# Altium schematic symbol library Misc.SchLib: 73 symbols
Pins are listed as number, name and electrical type; pins without a type are passive.

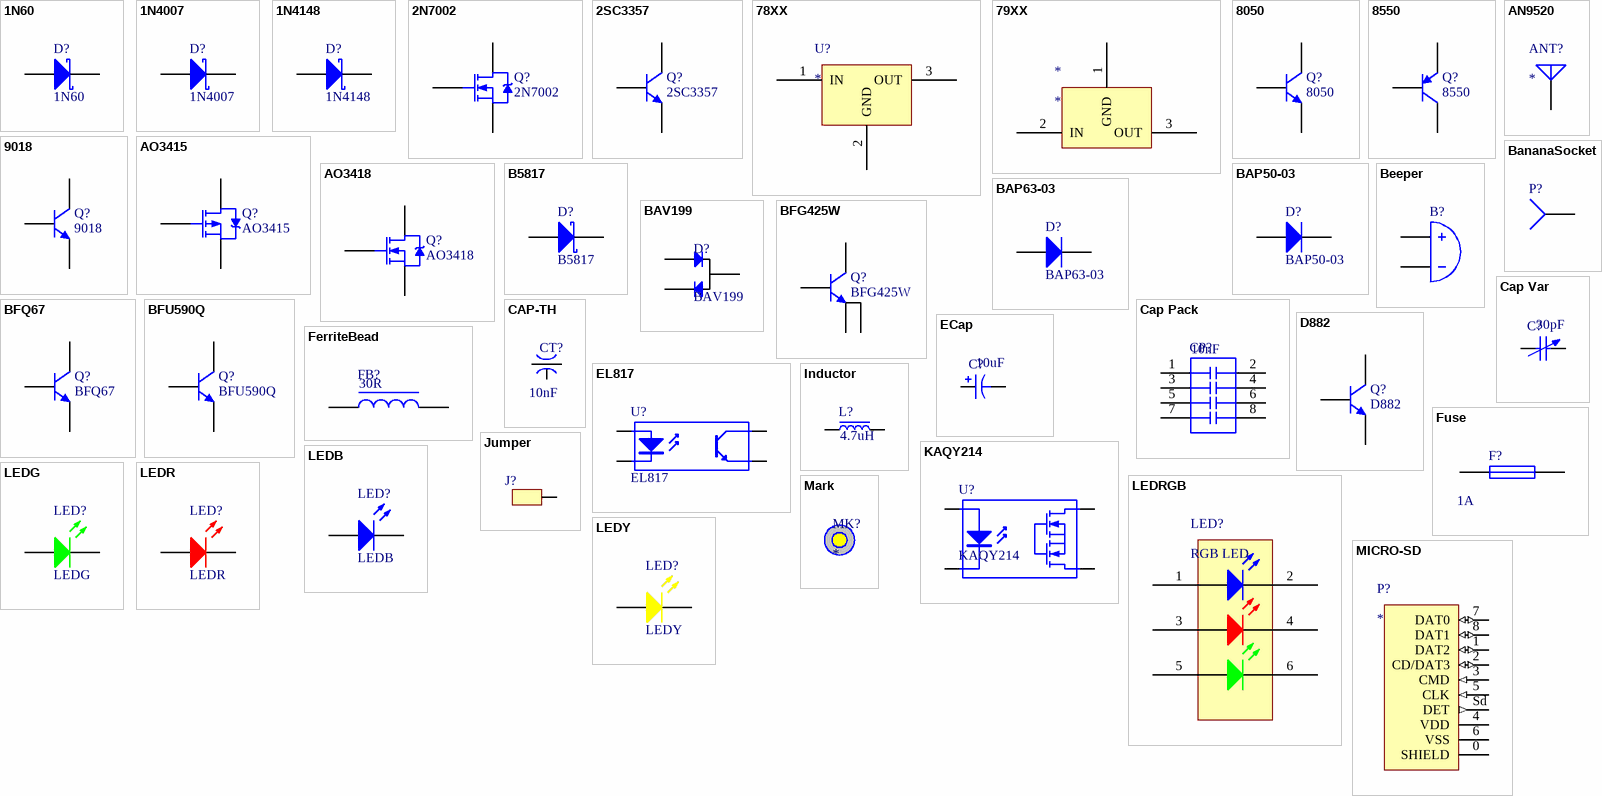
[diagram p0: symbols 1N60 to MICRO-SD]

## 1N60
designator D?
Germanium Glass Diode
footprint SOD-80
pins: 1 A, 2 K

## 1N4007
designator D?
footprint SMA (DO-214AC(2010))
pins: 1 A, 2 K

## 1N4148
designator D?
Small signal didoe
footprint SOD323 (0805)
footprint SOD-80 (LL34 SOD-80)
pins: 1 A, 2 K

## 2N7002
designator Q?
Small Signal MOSFET 60 V, 115 mA, N−Channel SOT−23
footprint SOT-23
pins: 1 G, 2 S, 3 D

## 2SC3357
designator Q?
NPN EPITAXIAL SILICON RF TRANSISTOR FOR HIGH-FREQUENCY LOW-NOISE AMPLIFICATION 3-PIN POWER MINIMOLD
footprint SOT-89
pins: 1 B, 2 C, 3 E

## 78XX
designator U?
footprint DPAKUNI
pins: 1 IN (power), 2 GND (power), 3 OUT (power)

## 79XX
designator *
footprint DPAKUNI
pins: 1 GND (power), 2 IN (power), 3 OUT (power)

## 8050
designator Q?
NPN Bipolar Transistor
footprint SOT-23
pins: 1 B, 2 E, 3 C

## 8550
designator Q?
PNP Bipolar Transistor
footprint SOT-23
pins: 1 B, 2 E, 3 C

## 9018
designator Q?
footprint TO-92A (TO, Flat Index; 3 In-Line, Axial Leads; Body Dia. 4.5mm; Leads 0.51 x 0.48 mm (max))
pins: 1 E, 2 B, 3 C

## AN9520
designator ANT?
Multilayer Chip Antenna for 2.4GHz Wireless Communication
footprint AN9520 (Multilayer Chip Antenna for 2.4GHz Wireless Communication)
pins: 1 A

## AO3415
designator Q?
20V P-Channel MOSFET
footprint SOT-23
pins: 1 G, 2 S, 3 D

## AO3418
designator Q?
30V N-Channel MOSFET
footprint SOT-23
pins: 1 G, 2 S, 3 D

## B5817
designator D?
1.0A SURFACE MOUNT SCHOTTKY BARRIER RECTIFIER
footprint SOD123 (1206)
pins: 1 A, 2 K

## BananaSocket
designator P?
BananaSocket
footprint BANANA_SOCKET
footprint BANANA_SOCKET_SCREW
footprint BANANA_SOCKET_HOLE
footprint BANANA_SOCKET_SMALL
pins: 1

## BAP50-03
designator D?
Silicon PIN diode
footprint SOD323 (0805)
pins: 1 A, 2 K

## BAP63-03
designator D?
Silicon PIN diode
footprint SOD323 (0805)
pins: 1 A, 2 K

## BAV199
designator D?
Low-leakage double diode
footprint SOT-23
pins: 1 A, 2 K, 3 COM

## Beeper
designator B?  (value not drawn)
footprint BEEPER
pins: 1 A, 2 B

## BFG425W
designator Q?
NPN 25 GHz wideband transistor
footprint SOT-343 (SOT143, 4-Leads, Body 2.92x2.10mm, Pitch 1.30mm, IPC Medium Density)
pins: 1 E, 2 B, 3 E, 4 C

## BFQ67
designator Q?
NPN 8 GHz wideband transistor
footprint SOT-23
pins: 1 B, 2 E, 3 C

## BFU590Q
designator Q?
NPN wideband silicon RF transistor
footprint SOT-89
pins: 1 B, 2 C, 3 E

## Cap Pack
designator CP?  value 10nF  (hidden comment: Cap Pack)
Packed capacitor
footprint 8P4R_0603
pins: 1, 2, 3, 4, 5, 6, 7, 8

## Cap Var
designator C?  value 30pF
Variable or Adjustable Capacitor; Published: 24-Mar-1999; LatestRevisionDate: 29-May-2009; LatestRevisionNote: IPC-7351 Footprint Added.; PackageReference: C1210; Publisher: Altium Limited; PackageDescription: Chip Capacitor 1210 Case Size; Code_JEITA: 1210; Code_IPC: CAPC3225
footprint TZC3
pins: 1, 2

## CAP-TH
designator CT?  value 10nF  (hidden comment: *)
3-terminal capacitor
footprint CAPC0603TH (Chip Capacitor, Body 1.6x0.8mm, Height 0.55mm, IPC Low Density)
footprint CAPC0805TH (Chip Capacitor, 2-Leads, Body 2.00x1.25mm, IPC Medium Density)
pins: 1 (power), 2 (power), 3 (power)

## D882
designator Q?
NPN Silicon Epitaxial Planar Transistor
footprint SOT-89 (SOT89, 3-Leads, Body 4.50x2.50mm, Pitch 1.50mm, Lead Span 3.5mm, IPC Medium Density)
pins: 1 B, 2 C, 3 E

## ECap
designator C?  value 10uF
footprint EC4x5.4
footprint EC6.3x5.4
pins: 1, 2
1 alternate drawing of the same symbol

## EL817
designator U?
Photocoupler
footprint EL817S
pins: 1 A "Anode", 2 K "Cathode", 3 E "Emitter", 4 C "Collector"

## FerriteBead
designator FB?  value 30R  (hidden comment: FerriteBead)
footprint 0402L
footprint 0603L
footprint 0805L (1/8W)
footprint 1206L (1/4W)
pins: 1, 2

## Fuse
designator F?  Current: 1A  (hidden comment: Fuse)
footprint FUSE154
footprint 1206F
pins: 1, 2

## Inductor
designator L?  value 4.7uH  (hidden comment: Inductor)
footprint 0402L
footprint 0603L
footprint 0805L (1/8W)
footprint 1206L (1/4W)
footprint 1210L
footprint 1812L
footprint 2220L
footprint 2525L
pins: 1, 2

## Jumper
designator J?  (value not drawn)
footprint JUMPER
pins: 1

## KAQY214
designator U?
4PIN 400V N.O TYPE SOLID STATE RELAY-MOSFET Output
footprint KAQY214
pins: 1 A "Anode", 2 K "Cathode", 3 "Emitter", 4 "Collector"

## LEDB
designator LED?
BLUE LED
footprint LED1206B
footprint LED0603
pins: 1 A, 2 K

## LEDG
designator LED?
GREEN LED
footprint LED1206G
footprint LED0805G
footprint LED0603
pins: 1 A, 2 K

## LEDR
designator LED?
RED LED
footprint LED1206R
footprint LED0805R
footprint LED0603
pins: 1 A, 2 K

## LEDRGB
designator LED?, comment RGB LED
footprint LED5050
pins: 1 BLUEA (power), 2 BLUEK, 3 REDA, 4 REDK, 5 GREENA, 6 GREENK

## LEDY
designator LED?
YELLOW LED
footprint LED1206Y
pins: 1 A, 2 K

## Mark
designator MK?
footprint MARK

## MICRO-SD
designator P?
Micro SD Card
footprint MICRO_SD
pins: 0 SHIELD, 1 DAT2 (io), 2 CD/DAT3 (io), 3 CMD (in), 4 VDD (power), 5 CLK (in), 6 VSS (power), 7 DAT0 (io), 8 DAT1 (io), Sd DET (out)

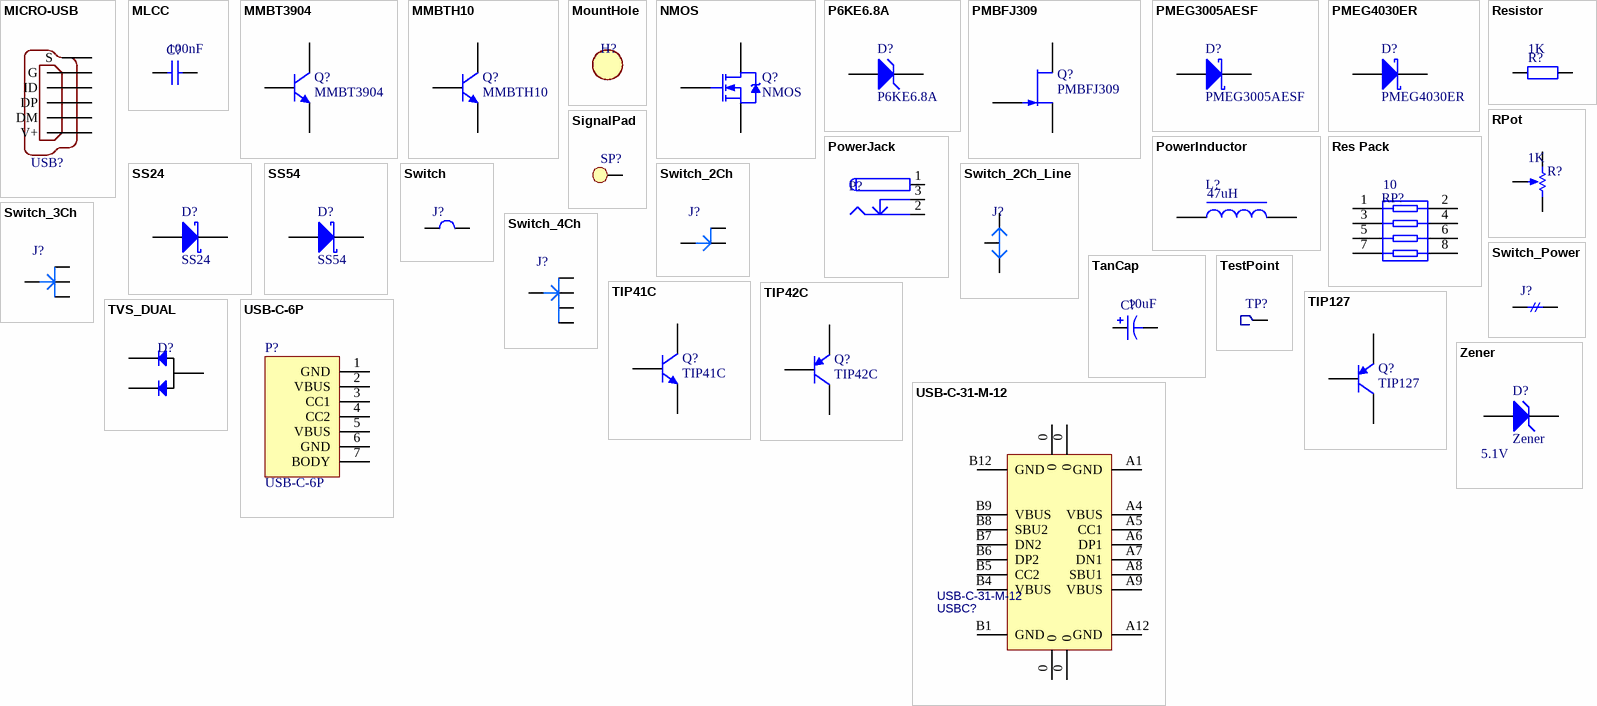
[diagram p1: symbols MICRO-USB to Zener]

## MICRO-USB
designator USB?  (value not drawn)
MICRO USB Connector
footprint USB-MICRO
pins: 1 G, 2 ID, 3 DP, 4 DM, 5 V+, 6 S

## MLCC
designator C?  value 100nF
MLCC
footprint 0402C
footprint 0603C
footprint 0805C
footprint 1206C
footprint 1210C
footprint 1812C
footprint 0201C (Chip Capacitor, 2-Leads, Body 0.60x0.30mm, IPC High Density)
pins: 1, 2

## MMBT3904
designator Q?
NPN switching transistor
footprint SOT-23
pins: 1 B, 2 E, 3 C

## MMBTH10
designator Q?
VHF/UHF Transistor
footprint SOT-23
pins: 1 B, 2 E, 3 C

## MountHole
designator H?  (value not drawn)
3mm mount hole
footprint MOUNTHOLE

## NMOS
designator Q?
N-Channel Power MOSFET
footprint DPAKUNI
pins: 1 G, 2 D, 3 S

## P6KE6.8A
designator D?
600 Watt Peak Power Surmetict-40 Zener TransientVoltage Suppressors
footprint SMB (DO-214AA)
pins: 1 A, 2 K

## PMBFJ309
designator Q?
N-channel silicon field-effect transistors
footprint SOT-23
pins: 1 S, 2 D, 3 G

## PMEG3005AESF
designator D?
30 V, 0.5 A low VF MEGA Schottky barrier rectifier
footprint 0201D
pins: 1 A, 2 K

## PMEG4030ER
designator D?
3 A low VF MEGA Schottky barrier rectifier
footprint SOD123 (1206)
pins: 1 A, 2 K

## PowerInductor
designator L?  value 47uH  (hidden comment: PowerInductor)
Power Inductor
footprint CD32NP (CD32)
footprint CD43NP (功率电感)
footprint CD75NP
footprint INDUCTOR
footprint INDUCTOR-NON-STANDARD
footprint IND0630 (POWER INDUCTOR)
footprint IND0420 (POWER INDUCTOR)
footprint CD54NP
footprint SWPA252012S (Wire Wound SMD Power Inductors)
footprint IND12X12
footprint IND68UH5A (Wire 0.75mm, Core 13mm 50125, Total diameter 15.5mm)
pins: 1, 2

## PowerJack
designator P?
Low Voltage Power Supply Connector; Published: 17-Dec-2003; DatasheetDocument: 09-May-2002; Publisher: Altium Limited; ComponentLink1Description: Manufacturer Link; ComponentLink1URL: http://domino.kycon.com/internet/Products.html
footprint DC_JACK_5.5*2.5
pins: 1 (power), 2 (power), 3 (power)

## Res Pack
designator RP?  value 10  (hidden comment: Res Pack)
Isolated Resistor Network
footprint 8P4R_0603
footprint 8P4R_0402
footprint 8P4R_0201
pins: 1, 2, 3, 4, 5, 6, 7, 8

## Resistor
designator R?  value 1K
Resistor
footprint 0402R
footprint 0603R
footprint 0805R (small type  ver20150428)
footprint 1206R
footprint 2512R
pins: 1, 2

## RPot
designator R?  value 1K  (hidden comment: RPot)
Potentiometer
footprint VR
pins: 1 TOP, 2 TAP, 3 BOT
1 alternate drawing of the same symbol

## SignalPad
designator SP?  (value not drawn)
footprint SIGNALPAD
pins: 1

## SS24
designator D?
Schottky Rectifier
footprint SMA (DO-214AC(2010))
pins: 1 A, 2 K

## SS54
designator D?
Schottky Rectifier
footprint SMC (DO-214AB(2114))
pins: 1 A, 2 K

## Switch
designator J?  (value not drawn)
footprint SWITCH
pins: 1, 2

## Switch_2Ch
designator J?  (value not drawn)
footprint SWITCH_2CH
pins: 1, 2, 3

## Switch_2Ch_Line
designator J?  (value not drawn)
footprint SWITCH_2CH_LINE
pins: 1, 2, 3

## Switch_3Ch
designator J?  (value not drawn)
footprint SWITCH_3CH
pins: 1, 2, 3, 4

## Switch_4Ch
designator J?  (value not drawn)
footprint SWITCH_4CH
pins: 1, 2, 3, 4, 5

## Switch_Power
designator J?  (value not drawn)
footprint SWITCH_POWER
pins: 1, 2

## TanCap
designator C?  value 10uF
Tantalum Polarized Capacitor
footprint 3216-A-TA
footprint 3528-B-TA
footprint 6032-C-TA
footprint 7243-D-TA
footprint 2012-0805-TA
pins: 1, 2
1 alternate drawing of the same symbol

## TestPoint
designator TP?  (value not drawn)
footprint TP
footprint TP_OSCILLOSCOPE
pins: 1

## TIP41C
designator Q?
NPN Epitaxial Silicon Transistor
footprint TO-220
pins: 1 B, 2 C, 3 E

## TIP42C
designator Q?
PNP Epitaxial Silicon Transistor
footprint TO-220
pins: 1 B, 2 C, 3 E

## TIP127
designator Q?
Plastic Medium-Power Complementary Silicon Transistors
footprint DPAK2
pins: 1 B, 2 C, 3 E

## TVS_DUAL
designator D?
footprint SOT-23
pins: 1 A, 2 K, 3 COM

## USB-C-6P
designator P?
footprint USB_TYPE-C_6P_SMT
pins: 1 GND, 2 VBUS, 3 CC1, 4 CC2, 5 VBUS, 6 GND, 7 BODY

## USB-C-31-M-12
designator USBC?
BOM_Manufacturer: Rectangular Connectors - Contacts; BOM_Manufacturer Part: TYPE-C-31-M-12; Contributor: LCSC; BOM_Supplier: LCSC; BOM_Supplier Part: C165948; spicePre: U
footprint USB-C_SMD-TYPE-C-31-M-12
pins: 0, 0, 0, 0, A1 GND, A4 VBUS, A5 CC1, A6 DP1, A7 DN1, A8 SBU1, A9 VBUS, A12 GND, B1 GND, B4 VBUS, B5 CC2, B6 DP2, B7 DN2, B8 SBU2, B9 VBUS, B12 GND

## Zener
designator D?  value 5.1V
Zener Diode
footprint SOD-80
footprint SMA (DO-214AC(2010))
footprint SOD123 (1206)
pins: 1 A, 2 K